# EAGLE library part POLOLU_1183 (library pololu)
Pololu 1183 Carrier board or breakout board for Allegro?s A4988 DMOS Microstepping Driver with Translator and Overcurrent Protection. The board has two voltage regulators (5 V and 3.3 V), eliminating the need for separate logic and motor supplies. The driver features adjustable current limiting, overcurrent protection, and five different microstep resolutions. It operates from 8 ? 35 V and can deliver up to 2 A per coil. - Simple step and direction control interface - Five different step resolutions - Adjustable current control lets you set the maximum current output with a potentiometer - Intelligent chopping control that automatically selects the correct current decay mode - Over-temperature thermal shutdown, under-voltage lockout, and crossover-current protection - Short-to-ground and shorted-load protection Link to product page <http://www.pololu.com/catalog/product/1183>
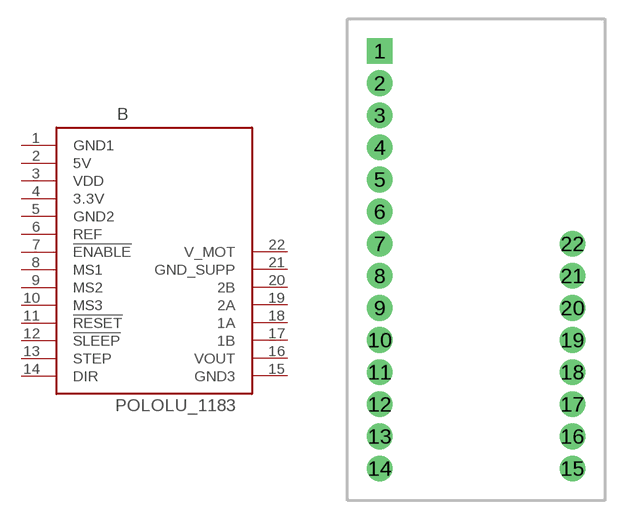
[diagram p0: symbol with the pads of POLOLU_1183; footprint POLOLU_1183]

Designator prefix B

## POLOLU_1183  [POLOLU_1183]
1  GND1
2  5V
3  VDD
4  3.3V
5  GND2
6  REF
7  !ENABLE
8  MS1
9  MS2
10  MS3
11  !RESET
12  !SLEEP
13  STEP
14  DIR
15  GND3
16  VOUT
17  1B
18  1A
19  2A
20  2B
21  GND_SUPP
22  V_MOT

## Footprint POLOLU_1183 (pad centres in mm)
drill 0.8 pad 2.032 square: 1 -7.62,17.78
drill 0.8 pad 2.032: 2 -7.62,15.24; 3 -7.62,12.7; 4 -7.62,10.16; 5 -7.62,7.62; 6 -7.62,5.08; 7 -7.62,2.54; 8 -7.62,0; 9 -7.62,-2.54; 10 -7.62,-5.08; 11 -7.62,-7.62; 12 -7.62,-10.16; 13 -7.62,-12.7; 14 -7.62,-15.24; 15 7.62,-15.24; 16 7.62,-12.7; 17 7.62,-10.16; 18 7.62,-7.62; 19 7.62,-5.08; 20 7.62,-2.54; 21 7.62,0; 22 7.62,2.54